# EAGLE library part NCP3170 (library vreg-pulse)
Synchronous PWM Switching Converter The NCP3170 is a flexible synchronous PWM Switching Buck Regulator. The NCP3170 operates from 4.5 V to 18 V, sourcing up to 3 A and is capable of producing output voltages as low as 0.8 V. The NCP3170 also incorporates current mode control. To reduce the number of external components, a number of features are internally set including soft start, power good detection, and switching frequency. Features 4.5 V to 18 V Operating Input Voltage Range 90 mW High-Side, 25 mW Low-Side Switch FMEA Fault Tolerant During Pin Short Test 3 A Continuous Output Current Fixed 500 kHz and 1 MHz PWM Operation Cycle-by-Cycle Current Monitoring 1.5% Initial Output Accuracy Internal 4.6 ms Soft-Start Short-Circuit Protection Turn on Into Pre-bias Power Good Indication Light Load Efficiency Thermal Shutdown These are Pb-Free Devices
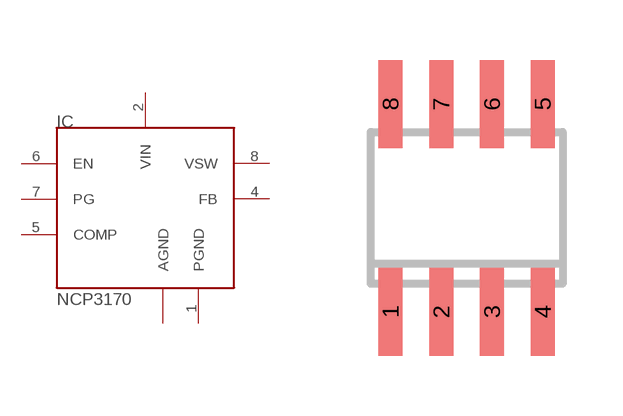
[diagram p7: symbol with the pads of SOIC8; footprint SOIC8]

Designator prefix IC

## NCP3170  [SOIC8]
1  PGND  pwr
2  VIN  pwr
3  AGND  pwr
4  FB  pas
5  COMP  pas
6  EN  pas
7  PG  pas
8  VSW  pas

## Footprint SOIC8 (pad centres in mm)
Small Outline IC
smd 0.6 x 2.2: 1 -1.905,-2.6; 2 -0.635,-2.6; 3 0.635,-2.6; 4 1.905,-2.6; 5 1.905,2.6; 6 0.635,2.6; 7 -0.635,2.6; 8 -1.905,2.6